# EAGLE library part MCP23008 (library dooba)
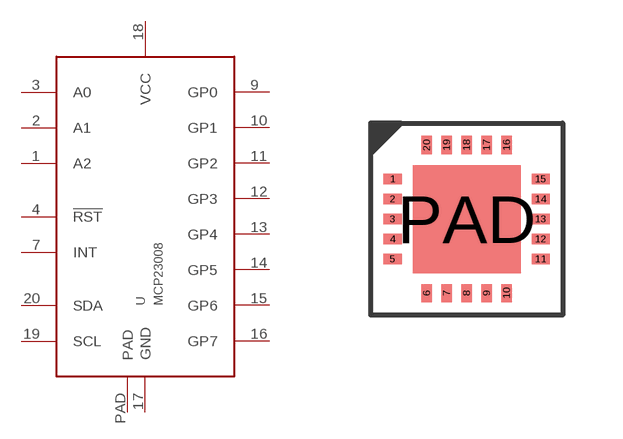
[diagram p27: symbol with the pads of 20-VQFN; footprint 20-VQFN]

Designator prefix U

## MCP23008QFN  [20-VQFN]
1  A2
2  A1
3  A0
4  !RST
7  INT
9  GP0
10  GP1
11  GP2
12  GP3
13  GP4
14  GP5
15  GP6
16  GP7
17  GND
18  VCC
19  SCL
20  SDA
PAD  PAD

## Footprint 20-VQFN (pad centres in mm)
smd 0.45 x 0.26: 1 -1.85,1; 2 -1.85,0.5; 3 -1.85,0; 4 -1.85,-0.5; 5 -1.85,-1; 11 1.85,-1; 12 1.85,-0.5; 13 1.85,0; 14 1.85,0.5; 15 1.85,1
smd 0.26 x 0.45: 6 -1,-1.85; 7 -0.5,-1.85; 8 0,-1.85; 9 0.5,-1.85; 10 1,-1.85; 16 1,1.85; 17 0.5,1.85; 18 0,1.85; 19 -0.5,1.85; 20 -1,1.85
smd 2.7 x 2.7: PAD 0,0